# Altium footprint library Gen_func.PcbLib: 24 footprints (part 2 of 2)
Each footprint in its own frame and in the unit in brackets; x right, y up, seen from the top. Pads: shape width x height; smd on the part's side, far side on the other; paste and mask are expansions set on the pad; w line width, h text height; cw(c..) or ccw(c..) is an arc to the next point about the centre after c.
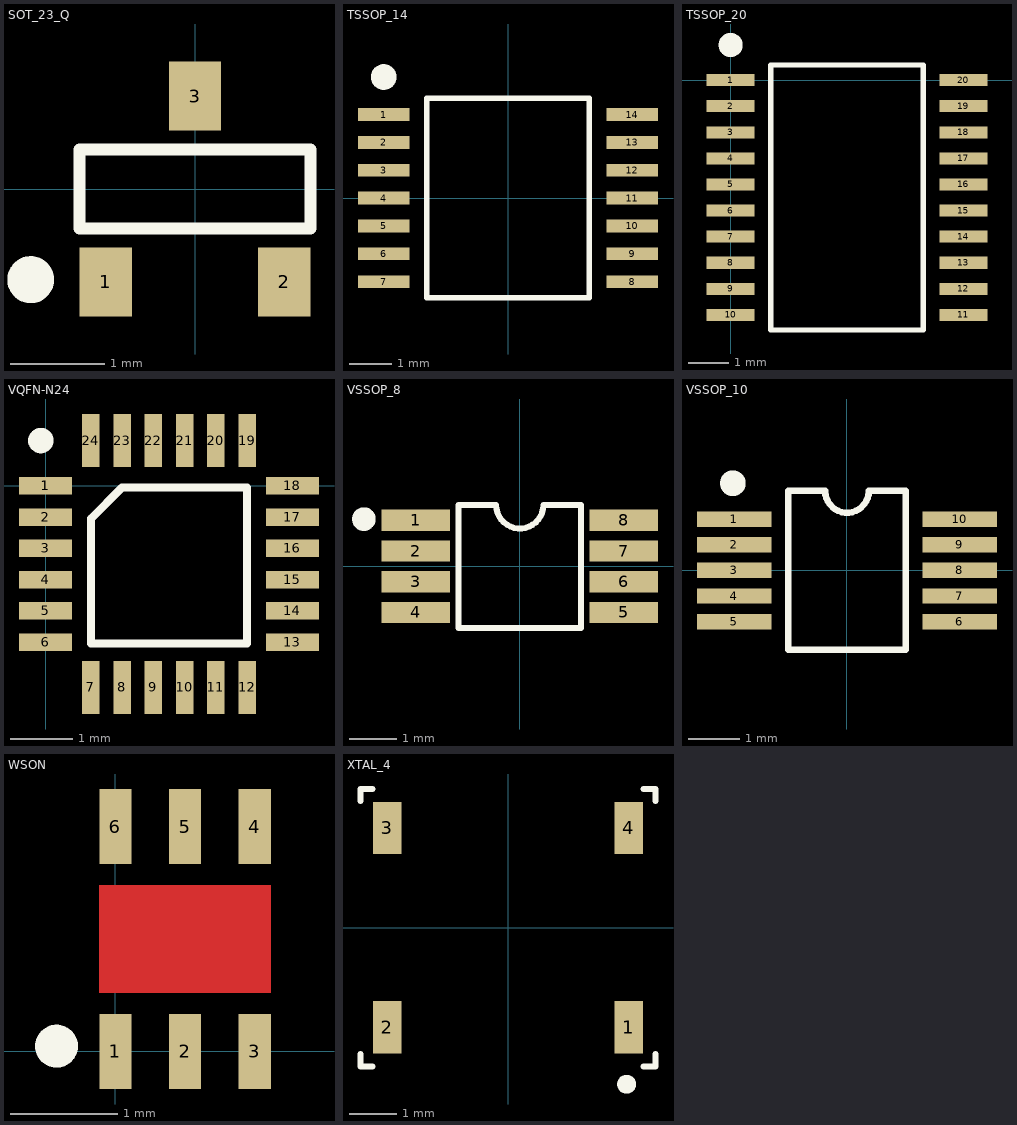
[diagram p1: the footprints below, top view; thin cyan lines are the x and y axes]

## SOT_23_Q [mil] "SOT 23, 3 leads"
pads (3):
  rect 22x29 smd: 1(-37.5,-39) 2(37.5,-39) 3(0,39)
Top Overlay:
  circle w9.84: c-68.9,-38.02 r4.92
  lines w5: -48.5,-16.57 48.5,-16.57 48.5,16.57 -48.5,16.57 -48.5,-16.57

## TSSOP_14 [mm] "TSSOP_14, 14-Leads"
pads (14):
  rect 1.2x0.3 smd: 1(-2.9,1.95) 2(-2.9,1.3) 3(-2.9,0.65) 4(-2.9,0) 5(-2.9,-0.65) 6(-2.9,-1.3) 7(-2.9,-1.95) 8(2.9,-1.95) 9(2.9,-1.3) 10(2.9,-0.65) 11(2.9,0) 12(2.9,0.65) 13(2.9,1.3) 14(2.9,1.95)
Top Overlay:
  circle w0.3: c-2.9,2.825 r0.15
  lines w0.127: -1.9,-2.325 1.9,-2.325 1.9,2.325 -1.9,2.325 -1.9,-2.325

## TSSOP_20 [mm] "TSSOP, 20-Leads"
pads (20):
  rect 1.2x0.3 smd: 1(0,0) 2(0,-0.65) 3(0,-1.3) 4(0,-1.95) 5(0,-2.6) 6(0,-3.25) 7(0,-3.9) 8(0,-4.55) 9(0,-5.2) 10(0,-5.85) 11(5.8,-5.85) 12(5.8,-5.2) 13(5.8,-4.55) 14(5.8,-3.9) 15(5.8,-3.25) 16(5.8,-2.6) 17(5.8,-1.95) 18(5.8,-1.3) 19(5.8,-0.65) 20(5.8,0)
Top Overlay:
  circle w0.3: c0,0.875 r0.15
  lines w0.127: 1,-6.225 4.8,-6.225 4.8,0.375 1,0.375 1,-6.225

## VQFN-N24 [mm] "QFN, 24-Leads"
pads (25):
  rect 0.85x0.28 smd: 1(0,0) 1(0,0) 2(0,-0.5) 3(0,-1) 4(0,-1.5) 5(0,-2) 6(0,-2.5) 13(3.95,-2.5) 14(3.95,-2) 15(3.95,-1.5) 16(3.95,-1) 17(3.95,-0.5) 18(3.95,0)
  rect 0.28x0.85 smd: 7(0.725,-3.225) 8(1.225,-3.225) 9(1.725,-3.225) 10(2.225,-3.225) 11(2.725,-3.225) 12(3.225,-3.225) 19(3.225,0.725) 20(2.725,0.725) 21(2.225,0.725) 22(1.725,0.725) 23(1.225,0.725) 24(0.725,0.725)
Top Overlay:
  lines w0.127: 0.725,-2.525 0.725,-0.525 1.225,-0.025 3.225,-0.025 3.225,-2.525 0.725,-2.525
  lines w0.254: -0.001,0.709 cw(c-0.075,0.725) 0,0.74

## VSSOP_8 [mm] "VSSOP, 8-Leads"
pads (8):
  rect 1.45x0.45 smd mask+0.05: 1(-2.2,0.975) 2(-2.2,0.325) 3(-2.2,-0.325) 4(-2.2,-0.975) 5(2.2,-0.975) 6(2.2,-0.325) 7(2.2,0.325) 8(2.2,0.975)
Top Overlay:
  circle w0.25: c-3.3,1 r0.125
  lines w0.127: -1.3,-1.3 1.3,-1.3 1.3,1.3 0.5,1.3 cw(c0,1.3) -0.5,1.3 -1.3,1.3 -1.3,-1.3

## VSSOP_10 [mm] "TSSOP, 10-Leads"
height 1.1
pads (10):
  rect 1.45x0.3 smd mask+0.05: 1(-2.2,1) 2(-2.2,0.5) 3(-2.2,0) 4(-2.2,-0.5) 5(-2.2,-1) 6(2.2,-1) 7(2.2,-0.5) 8(2.2,0) 9(2.2,0.5) 10(2.2,1)
Top Overlay:
  circle w0.25: c-2.225,1.7 r0.125
  lines w0.127: -1.15,-1.55 1.15,-1.55 1.15,1.55 0.425,1.55 cw(c0,1.55) -0.425,1.55 -1.15,1.55 -1.15,-1.55

## WSON [mm] "Plastic Small Outline No Lead, 6-Lead"
pads (6):
  rect 0.3x0.7 smd: 1(0,0) 2(0.65,0) 3(1.3,0) 4(1.3,2.1) 5(0.65,2.1) 6(0,2.1)
Top Layer:
  region: -0.15,0.55 -0.15,1.55 1.45,1.55 1.45,0.55
Top Overlay:
  circle w0.2: c-0.55,0.05 r0.1

## XTAL_4 [mm] "Crystal, 4-SMD, 7x6mm"
pads (4):
  rect 0.6x1.1 smd: 1(2.54,-2.1) 2(-2.54,-2.1) 3(-2.54,2.1) 4(2.54,2.1)
Top Overlay:
  circle w0.2: c2.5,-3.3 r0.1
  lines w0.127: -3.111,-2.667 -3.111,-2.921 -2.857,-2.921 ; -3.111,2.667 -3.111,2.921 -2.857,2.921 ; 2.857,-2.921 3.111,-2.921 3.111,-2.667 ; 2.857,2.921 3.111,2.921 3.111,2.667